# Altium footprint library WH1602B.PcbLib: 1 footprints
Each footprint in its own frame and in the unit in brackets; x right, y up, seen from the top. Pads: shape width x height; smd on the part's side, far side on the other; paste and mask are expansions set on the pad; w line width, h text height; cw(c..) or ccw(c..) is an arc to the next point about the centre after c.
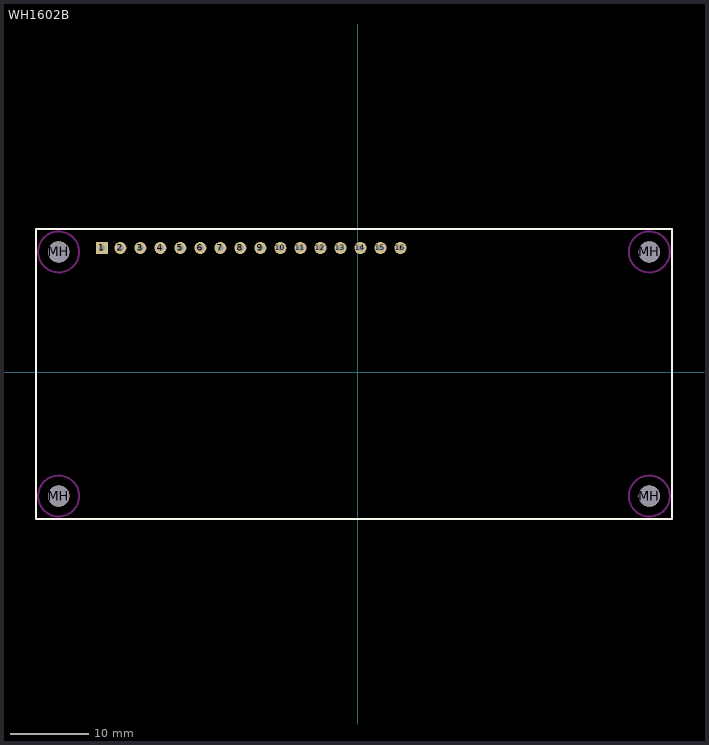
[diagram p0: the footprint, top view; thin cyan lines are the x and y axes]

## WH1602B [mm]
height 13.5
pads (20):
  rect 1.524x1.524 hole 0.762: 1(-32.5,15.8)
  round 1.524 hole 0.762: 2(-30.16,15.8) 3(-27.62,15.8) 4(-25.08,15.8) 5(-22.54,15.8) 6(-20,15.8) 7(-17.46,15.8) 8(-14.92,15.8) 9(-12.38,15.8) 10(-9.84,15.8) 11(-7.3,15.8) 12(-4.76,15.8) 13(-2.22,15.8) 14(0.32,15.8) 15(2.86,15.8) 16(5.4,15.8)
  round 2.7 hole 2.7 unplated: MH(-38,-15.7) MH(-38,15.3) MH(37,-15.7) MH(37,15.3)
Top Overlay:
  lines w0.254: -40.9,-18.6 39.9,-18.6 39.9,18.2 -40.9,18.2 -40.9,-18.6
Keep-Out Layer:
  circle w0.254: c37,15.3 r2.6
  circle w0.254: c37,-15.7 r2.6
  circle w0.254: c-38,-15.7 r2.6
  circle w0.254: c-38,15.3 r2.6
3D body "User Library-Winstar WH1602B-1.step": height 13.2, standoff 0.2, extent -40.5,-18.2 39.5,17.8